# Altium integrated library TPS61023DRLT.IntLib: 1 symbol
Pins are listed as number, name and electrical type; pins without a type are passive.

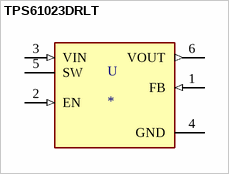
[diagram p0: symbol TPS61023DRLT]

## TPS61023DRLT
designator U
Boost Switching Regulator IC Positive Adjustable 2.2V 1 Output 3A SOT-563, SOT-666; MF: Texas Instruments; MP: TPS61023DRLT; SnapEDA_Link: https://www.snapeda.com/parts/TPS61023DRLT/Texas%20Instruments/view-part/4477974/?ref=snap; Availability: Unavailable; Value: *; Price: None; Package: SOT-563 Texas Instruments
footprint SOT50P160X60-6N
pins: 1 FB (in), 2 EN (in), 3 VIN (in), 4 GND (power), 5 SW, 6 VOUT (out)